# EAGLE library part MICROBUILDER_ATSAMD51G (library DAWA-MPU 6.3)
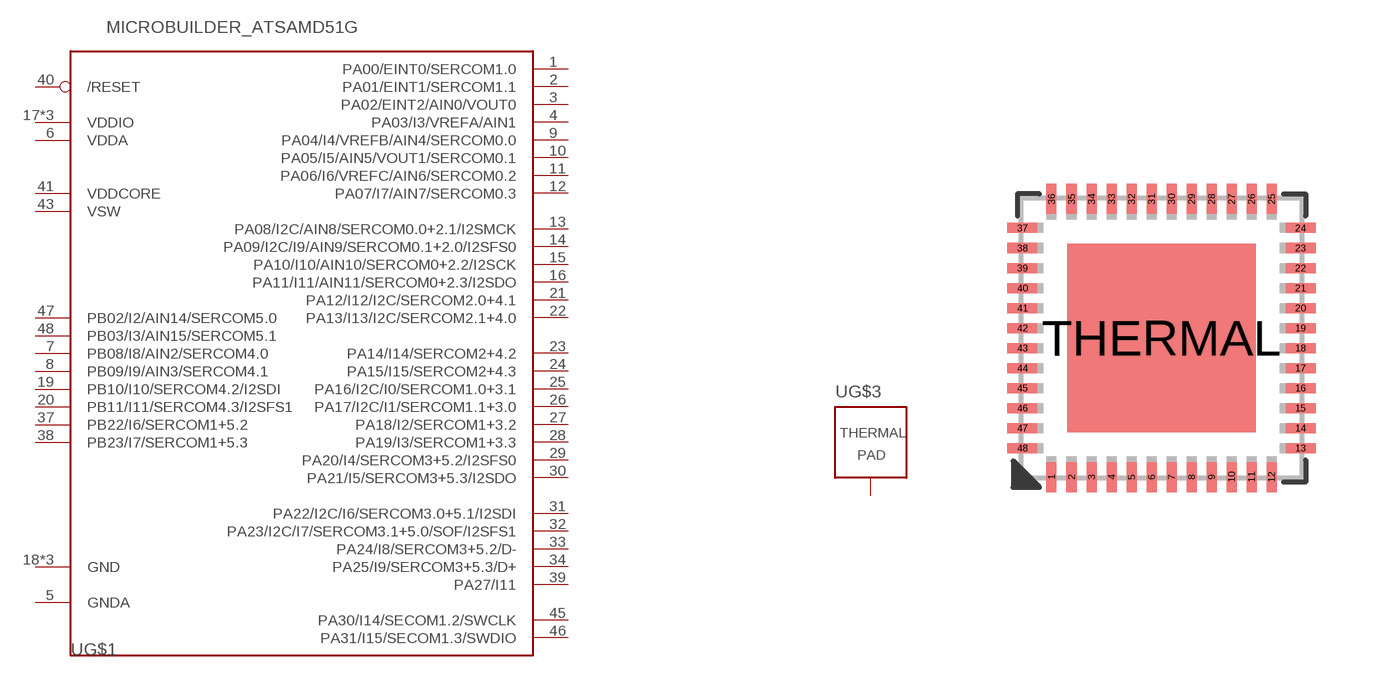
[diagram p3: symbol with the pads of MICROBUILDER_TQFN48_7MM; footprint MICROBUILDER_TQFN48_7MM]

Designator prefix -; gates G$1=MICROBUILDER_ATSAMD51G G$3=MICROBUILDER_THERMAL-SLUG

## MICROBUILDER_ATSAMD51G_TQFN48  [MICROBUILDER_TQFN48_7MM]
1  G$1:PA00/EINT0/SERCOM1.0
2  G$1:PA01/EINT1/SERCOM1.1
3  G$1:PA02/EINT2/AIN0/VOUT0
4  G$1:PA03/I3/VREFA/AIN1
5  G$1:GNDA  pwr
6  G$1:VDDA  pwr
7  G$1:PB08/I8/AIN2/SERCOM4.0
8  G$1:PB09/I9/AIN3/SERCOM4.1
9  G$1:PA04/I4/VREFB/AIN4/SERCOM0.0
10  G$1:PA05/I5/AIN5/VOUT1/SERCOM0.1
11  G$1:PA06/I6/VREFC/AIN6/SERCOM0.2
12  G$1:PA07/I7/AIN7/SERCOM0.3
13  G$1:PA08/I2C/AIN8/SERCOM0.0+2.1/I2SMCK
14  G$1:PA09/I2C/I9/AIN9/SERCOM0.1+2.0/I2SFS0
15  G$1:PA10/I10/AIN10/SERCOM0+2.2/I2SCK
16  G$1:PA11/I11/AIN11/SERCOM0+2.3/I2SDO
17  G$1:VDDIO  pwr
18  G$1:GND  pwr
19  G$1:PB10/I10/SERCOM4.2/I2SDI
20  G$1:PB11/I11/SERCOM4.3/I2SFS1
21  G$1:PA12/I12/I2C/SERCOM2.0+4.1
22  G$1:PA13/I13/I2C/SERCOM2.1+4.0
23  G$1:PA14/I14/SERCOM2+4.2
24  G$1:PA15/I15/SERCOM2+4.3
25  G$1:PA16/I2C/I0/SERCOM1.0+3.1
26  G$1:PA17/I2C/I1/SERCOM1.1+3.0
27  G$1:PA18/I2/SERCOM1+3.2
28  G$1:PA19/I3/SERCOM1+3.3
29  G$1:PA20/I4/SERCOM3+5.2/I2SFS0
30  G$1:PA21/I5/SERCOM3+5.3/I2SDO
31  G$1:PA22/I2C/I6/SERCOM3.0+5.1/I2SDI
32  G$1:PA23/I2C/I7/SERCOM3.1+5.0/SOF/I2SFS1
33  G$1:PA24/I8/SERCOM3+5.2/D-
34  G$1:PA25/I9/SERCOM3+5.3/D+
35  G$1:GND  pwr
36  G$1:VDDIO  pwr
37  G$1:PB22/I6/SERCOM1+5.2
38  G$1:PB23/I7/SERCOM1+5.3
39  G$1:PA27/I11
40  G$1:/RESET
41  G$1:VDDCORE  pwr
42  G$1:GND  pwr
43  G$1:VSW  pwr
44  G$1:VDDIO  pwr
45  G$1:PA30/I14/SECOM1.2/SWCLK
46  G$1:PA31/I15/SECOM1.3/SWDIO
47  G$1:PB02/I2/AIN14/SERCOM5.0
48  G$1:PB03/I3/AIN15/SERCOM5.1
THERMAL  G$3:TP  pwr

## Footprint MICROBUILDER_TQFN48_7MM (pad centres in mm)
smd 0.25 x 0.75: 1 -2.75,-3.475; 2 -2.25,-3.475; 3 -1.75,-3.475; 4 -1.25,-3.475; 5 -0.75,-3.475; 6 -0.25,-3.475; 7 0.25,-3.475; 8 0.75,-3.475; 9 1.25,-3.475; 10 1.75,-3.475; 11 2.25,-3.475; 12 2.75,-3.475; 25 2.75,3.475; 26 2.25,3.475; 27 1.75,3.475; 28 1.25,3.475; 29 0.75,3.475; 30 0.25,3.475; 31 -0.25,3.475; 32 -0.75,3.475; 33 -1.25,3.475; 34 -1.75,3.475; 35 -2.25,3.475; 36 -2.75,3.475
smd 0.75 x 0.25: 13 3.475,-2.75; 14 3.475,-2.25; 15 3.475,-1.75; 16 3.475,-1.25; 17 3.475,-0.75; 18 3.475,-0.25; 19 3.475,0.25; 20 3.475,0.75; 21 3.475,1.25; 22 3.475,1.75; 23 3.475,2.25; 24 3.475,2.75; 37 -3.475,2.75; 38 -3.475,2.25; 39 -3.475,1.75; 40 -3.475,1.25; 41 -3.475,0.75; 42 -3.475,0.25; 43 -3.475,-0.25; 44 -3.475,-0.75; 45 -3.475,-1.25; 46 -3.475,-1.75; 47 -3.475,-2.25; 48 -3.475,-2.75
smd 4.7 x 4.7: THERMAL 0,0